# Altium footprint library TI-HVSSOP-8.PcbLib: 1 footprints
Each footprint in its own frame and in the unit in brackets; x right, y up, seen from the top. Pads: shape width x height; smd on the part's side, far side on the other; paste and mask are expansions set on the pad; w line width, h text height; cw(c..) or ccw(c..) is an arc to the next point about the centre after c.
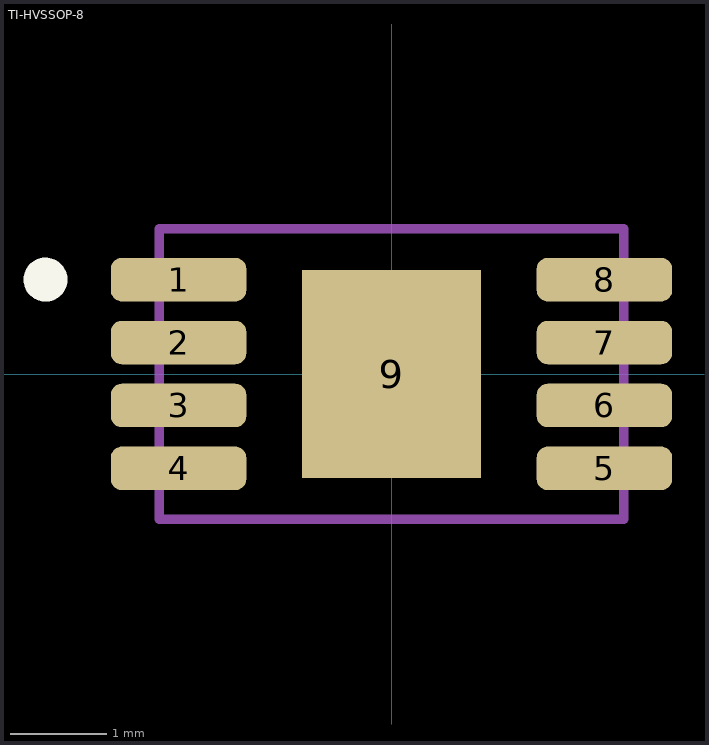
[diagram p0: the footprint, top view; thin cyan lines are the x and y axes]

## TI-HVSSOP-8 [mm] "TI Footprint for HVSSOP-8 With Thermal Pad"
height 1.1
pads (9):
  rrect50% 1.4x0.45 smd mask+0: 1(-2.2,0.975) 2(-2.2,0.325) 3(-2.2,-0.325) 4(-2.2,-0.975) 5(2.2,-0.975) 6(2.2,-0.325) 7(2.2,0.325) 8(2.2,0.975)
  rect 1.846x2.15 smd paste+0 mask+0: 9(0,0)
Top Overlay:
  circle w0.254: c-3.575,0.975 r0.1
Mechanical 13:
  lines w0.1: -2.4,-1.5 -2.4,1.5 2.4,1.5 2.4,-1.5 -2.4,-1.5
Mechanical 15:
  lines w0.1: -0.3,0 0.3,0 ; 0,-0.2 0,0.2
3D body "TPS2064DGNR.stp": height 1.1, standoff 0, extent -2.45,-1.5 2.45,1.5